# Altium footprint library molex-slimstack.PcbLib: 1 footprints
Each footprint in its own frame and in the unit in brackets; x right, y up, seen from the top. Pads: shape width x height; smd on the part's side, far side on the other; paste and mask are expansions set on the pad; w line width, h text height; cw(c..) or ccw(c..) is an arc to the next point about the centre after c.
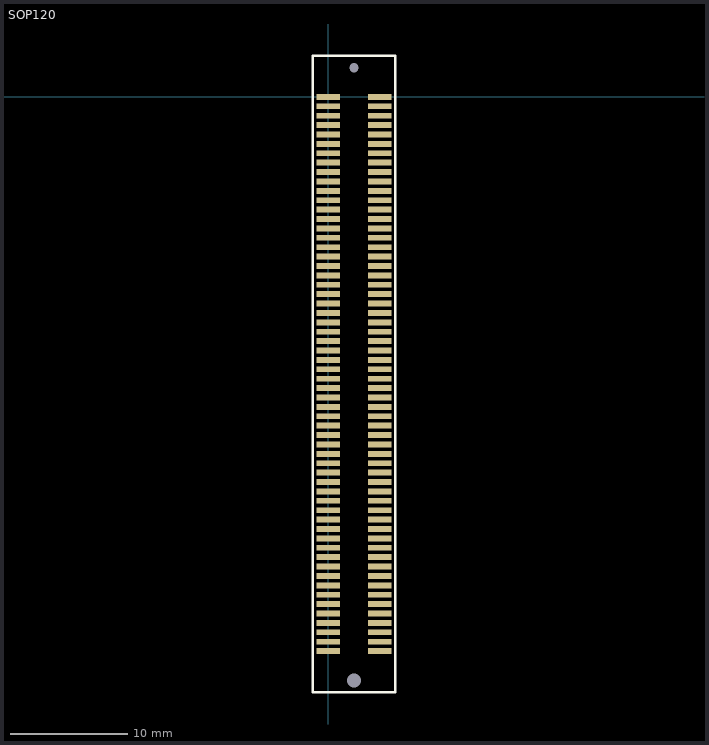
[diagram p0: the footprint, top view; thin cyan lines are the x and y axes]

## SOP120 [mm]
height 5
pads (122):
  rect 2x0.5 smd: 1(0,0) 2(4.4,0) 3(0,-0.8) 4(4.4,-0.8) 5(0,-1.6) 6(4.4,-1.6) 7(0,-2.4) 8(4.4,-2.4) 9(0,-3.2) 10(4.4,-3.2) 11(0,-4) 12(4.4,-4) 13(0,-4.8) 14(4.4,-4.8) 15(0,-5.6) 16(4.4,-5.6) 17(0,-6.4) 18(4.4,-6.4) 19(0,-7.2) 20(4.4,-7.2) 21(0,-8) 22(4.4,-8) 23(0,-8.8) 24(4.4,-8.8) 25(0,-9.6) 26(4.4,-9.6) 27(0,-10.4) 28(4.4,-10.4) 29(0,-11.2) 30(4.4,-11.2) 31(0,-12) 32(4.4,-12) 33(0,-12.8) 34(4.4,-12.8) 35(0,-13.6) 36(4.4,-13.6) 37(0,-14.4) 38(4.4,-14.4) 39(0,-15.2) 40(4.4,-15.2) 41(0,-16) 42(4.4,-16) 43(0,-16.8) 44(4.4,-16.8) 45(0,-17.6) 46(4.4,-17.6) 47(0,-18.4) 48(4.4,-18.4) 49(0,-19.2) 50(4.4,-19.2) 51(0,-20) 52(4.4,-20) 53(0,-20.8) 54(4.4,-20.8) 55(0,-21.6) 56(4.4,-21.6) 57(0,-22.4) 58(4.4,-22.4) 59(0,-23.2) 60(4.4,-23.2) 61(0,-24) 62(4.4,-24) 63(0,-24.8) 64(4.4,-24.8) 65(0,-25.6) 66(4.4,-25.6) 67(0,-26.4) 68(4.4,-26.4) 69(0,-27.2) 70(4.4,-27.2) 71(0,-28) 72(4.4,-28) 73(0,-28.8) 74(4.4,-28.8) 75(0,-29.6) 76(4.4,-29.6) 77(0,-30.4) 78(4.4,-30.4) 79(0,-31.2) 80(4.4,-31.2) 81(0,-32) 82(4.4,-32) 83(0,-32.8) 84(4.4,-32.8) 85(0,-33.6) 86(4.4,-33.6) 87(0,-34.4) 88(4.4,-34.4) 89(0,-35.2) 90(4.4,-35.2) 91(0,-36) 92(4.4,-36) 93(0,-36.8) 94(4.4,-36.8) 95(0,-37.6) 96(4.4,-37.6) 97(0,-38.4) 98(4.4,-38.4) 99(0,-39.2) 100(4.4,-39.2) 101(0,-40) 102(4.4,-40) 103(0,-40.8) 104(4.4,-40.8) 105(0,-41.6) 106(4.4,-41.6) 107(0,-42.4) 108(4.4,-42.4) 109(0,-43.2) 110(4.4,-43.2) 111(0,-44) 112(4.4,-44) 113(0,-44.8) 114(4.4,-44.8) 115(0,-45.6) 116(4.4,-45.6) 117(0,-46.4) 118(4.4,-46.4) 119(0,-47.2) 120(4.4,-47.2)
  round 0 hole 0.8 unplated: HOLE1(2.2,2.5)
  round 0 hole 1.2 unplated: HOLE2(2.2,-49.7)
Top Overlay:
  lines w0.2: -1.3,-50.7 -1.3,3.5 5.7,3.5 5.7,-50.7 -1.3,-50.7
3D body: height 3.65, standoff -0.7, extent -0.85,-50.5 5.15,3.3